# Altium schematic symbol library Connector_Shapes.SchLib: 33 symbols
Pins are listed as number, name and electrical type; pins without a type are passive.

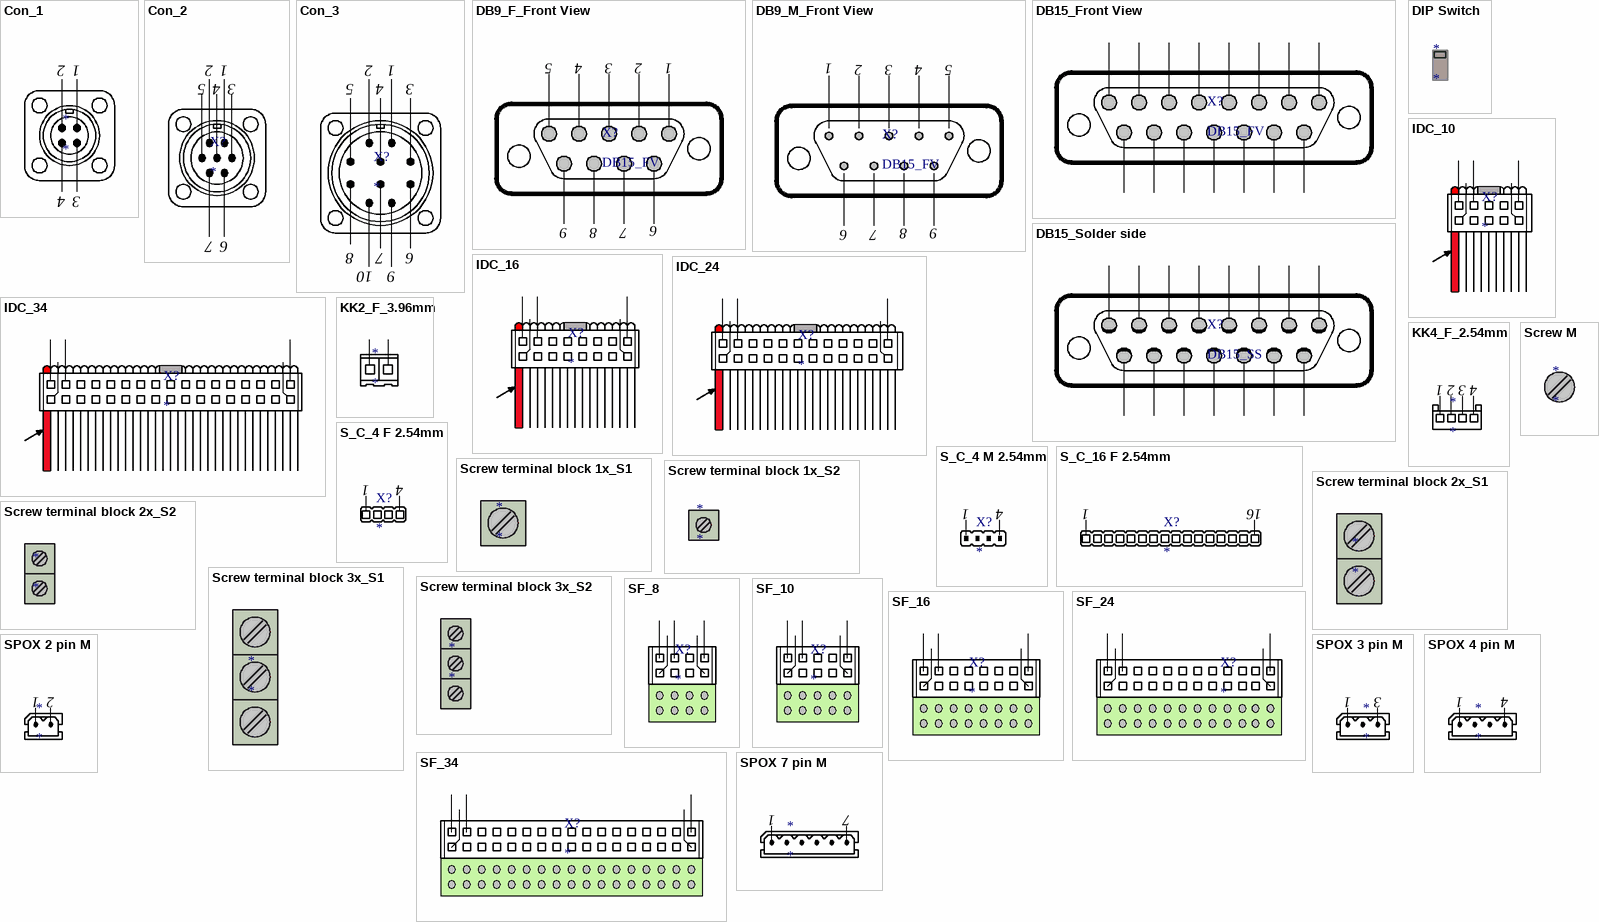
[diagram p0: symbols Con_1 to SPOX 7 pin M]

## Con_1
designator *
text: 2; 1; 4; 3

## Con_2
designator X?
text: 2; 1; 5; 4; 3; 7; 6

## Con_3
designator X?
text: 2; 1; 5; 4; 3; 8; 7; 6; 10; 9

## DB9_F_Front View
designator X?, comment DB15_FV
DB15_Solder side
text: 5; 4; 3; 2; 1; 9; 8; 7; 6

## DB9_M_Front View
designator X?, comment DB15_FV
DB15_Solder side
text: 1; 2; 3; 4; 5; 6; 7; 8; 9

## DB15_Front View
designator X?, comment DB15_FV
DB15_Solder side

## DB15_Solder side
designator X?, comment DB15_SS
DB15_Solder side

## DIP Switch
designator *

## IDC_10
designator X?

## IDC_16
designator X?

## IDC_24
designator X?

## IDC_34
designator X?

## KK2_F_3.96mm
designator *

## KK4_F_2.54mm
designator *
text: 1; 2; 3; 4

## S_C_4 F 2.54mm
designator X?
text: 1; 4

## S_C_4 M 2.54mm
designator X?
text: 1; 4

## S_C_16 F 2.54mm
designator X?
text: 1; 16

## Screw M
designator *

## Screw terminal block 1x_S1
designator *

## Screw terminal block 1x_S2
designator *

## Screw terminal block 2x_S1
designator *

## Screw terminal block 2x_S2
designator *

## Screw terminal block 3x_S1
designator *

## Screw terminal block 3x_S2
designator *

## SF_8
designator X?

## SF_10
designator X?

## SF_16
designator X?

## SF_24
designator X?

## SF_34
designator X?

## SPOX 2 pin M
designator *
text: 1; 2

## SPOX 3 pin M
designator *
text: 1; 3

## SPOX 4 pin M
designator *
text: 1; 4

## SPOX 7 pin M
designator *
text: 1; 7